# Altium footprint library LCD.PcbLib: 8 footprints
Each footprint in its own frame and in the unit in brackets; x right, y up, seen from the top. Pads: shape width x height; smd on the part's side, far side on the other; paste and mask are expansions set on the pad; w line width, h text height; cw(c..) or ccw(c..) is an arc to the next point about the centre after c.
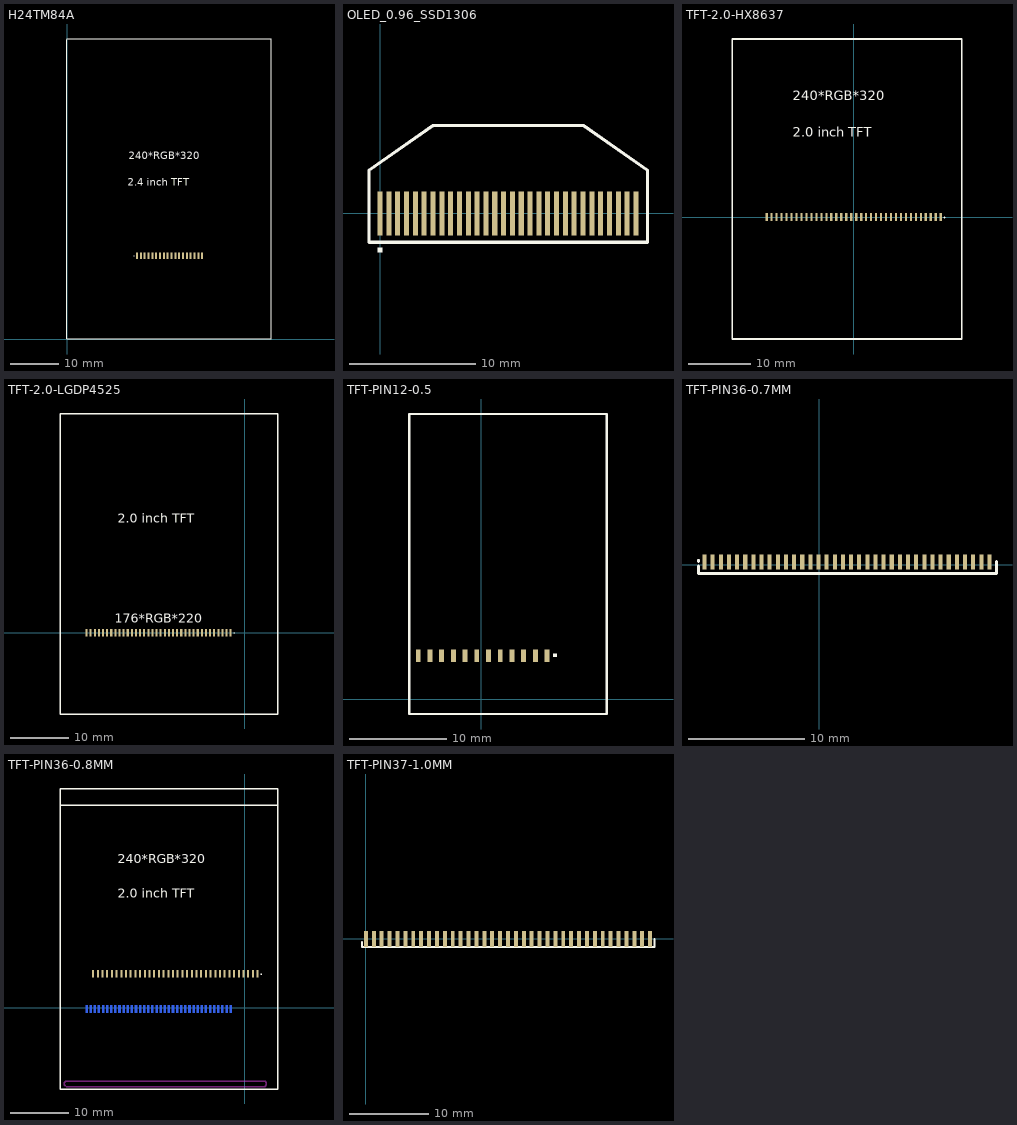
[diagram p0: the footprints below, top view; thin cyan lines are the x and y axes]

## H24TM84A [mm] "TFT-PIN18-0.8MM"
pads (18):
  rect 0.4x1.3 smd: 1(14.6,17.5) 2(15.4,17.5) 3(16.2,17.5) 4(17,17.5) 5(17.8,17.5) 6(18.6,17.5) 7(19.4,17.5) 8(20.2,17.5) 9(21,17.5) 10(21.8,17.5) 11(22.6,17.5) 12(23.4,17.5) 13(24.2,17.5) 14(25,17.5) 15(25.8,17.5) 16(26.6,17.5) 17(27.4,17.5) 18(28.2,17.5)
Top Overlay:
  lines w0.254: -0.045,62.543 -0.045,0.097 42.606,0.097 42.606,62.743 -0.045,62.743 ; 13.995,17.373 13.995,17.5
  text "2.4 inch TFT" at 12.7,32.1 h1.52
  text "240*RGB*320" at 12.9,37.6 h1.52

## OLED_0.96_SSD1306 [mm]
pads (30):
  rect 0.4x3.5 smd: 1(0,0) 2(0.7,0) 3(1.4,0) 4(2.1,0) 5(2.8,0) 6(3.5,0) 7(4.2,0) 8(4.9,0) 9(5.6,0) 10(6.3,0) 11(7,0) 12(7.7,0) 13(8.4,0) 14(9.1,0) 15(9.8,0) 16(10.5,0) 17(11.2,0) 18(11.9,0) 19(12.6,0) 20(13.3,0) 21(14,0) 22(14.7,0) 23(15.4,0) 24(16.1,0) 25(16.8,0) 26(17.5,0) 27(18.2,0) 28(18.9,0) 29(19.6,0) 30(20.3,0)
Top Overlay:
  rectangle: -0.2,-3.1 0.2,-2.7
  lines w0.254: -0.889,-2.286 21.209,-2.286 21.209,3.429 16.129,6.985 4.191,6.985 -0.889,3.429 -0.889,-2.286

## TFT-2.0-HX8637 [mm]
pads (36):
  rect 0.35x1.3 smd: 1(14,0) 2(13.2,0) 3(12.4,0) 4(11.6,0) 5(10.8,0) 6(10,0) 7(9.2,0) 8(8.4,0) 9(7.6,0) 10(6.8,0) 11(6,0) 12(5.2,0) 13(4.4,0) 14(3.6,0) 15(2.8,0) 16(2,0) 17(1.2,0) 18(0.4,0) 19(-0.4,0) 20(-1.2,0) 21(-2,0) 22(-2.8,0) 23(-3.6,0) 24(-4.4,0) 25(-5.2,0) 26(-6,0) 27(-6.8,0) 28(-7.6,0) 29(-8.4,0) 30(-9.2,0) 31(-10,0) 32(-10.8,0) 33(-11.6,0) 34(-12.4,0) 35(-13.2,0) 36(-14,0)
Top Overlay:
  lines w0.254: 14.605,-0.127 14.605,0 ; -19.558,-19.603 -19.558,28.657 17.399,28.657 17.399,-19.603 -19.558,-19.603
  text "240*RGB*320" at -9.779,18.796 h1.52
  text "2.0 inch TFT" at -9.779,12.954 h1.52

## TFT-2.0-LGDP4525 [mm]
pads (36):
  rect 0.35x1.3 smd: 1(-2.38,0.004) 2(-3.08,0.004) 3(-3.781,0.004) 4(-4.481,0.004) 5(-5.182,0.004) 6(-5.883,0.004) 7(-6.583,0.004) 8(-7.284,0.004) 9(-7.984,0.004) 10(-8.685,0.004) 11(-9.385,0.004) 12(-10.086,0.004) 13(-10.787,0.004) 14(-11.487,0.004) 15(-12.188,0.004) 16(-12.888,0.004) 17(-13.589,0.004) 18(-14.29,0.004) 19(-14.99,0.004) 20(-15.691,0.004) 21(-16.391,0.004) 22(-17.092,0.004) 23(-17.792,0.004) 24(-18.493,0.004) 25(-19.194,0.004) 26(-19.894,0.004) 27(-20.595,0.004) 28(-21.295,0.004) 29(-21.996,0.004) 30(-22.697,0.004) 31(-23.397,0.004) 32(-24.098,0.004) 33(-24.798,0.004) 34(-25.499,0.004) 35(-26.199,0.004) 36(-26.9,0.004)
Top Overlay:
  lines w0.254: -1.774,-0.123 -1.774,0.004 ; 5.606,34.079 5.606,37.209 -31.351,37.209 -31.351,34.415 -31.351,-13.845 5.606,-13.845 5.606,34.415
  text "2.0 inch TFT" at -21.572,18.712 h1.52
  text "176*RGB*220" at -22.098,1.651 h1.52

## TFT-PIN12-0.5 [mm]
pads (12):
  rect 0.5x1.3 smd: 1(6.731,4.445) 2(5.531,4.445) 3(4.331,4.445) 4(3.131,4.445) 5(1.931,4.445) 6(0.731,4.445) 7(-0.469,4.445) 8(-1.669,4.445) 9(-2.869,4.445) 10(-4.069,4.445) 11(-5.269,4.445) 12(-6.469,4.445)
Top Overlay:
  region: 7.747,4.699 7.366,4.699 7.366,4.318 7.747,4.318
  lines w0.254: -7.366,-1.524 12.827,-1.524 12.827,29.21 -7.366,29.21 -7.366,-1.524

## TFT-PIN36-0.7MM [mm]
pads (36):
  rect 0.35x1.3 smd: 1(-9.877,0.228) 2(-9.177,0.228) 3(-8.477,0.228) 4(-7.777,0.228) 5(-7.077,0.228) 6(-6.377,0.228) 7(-5.677,0.228) 8(-4.977,0.228) 9(-4.277,0.228) 10(-3.577,0.228) 11(-2.877,0.228) 12(-2.177,0.228) 13(-1.477,0.228) 14(-0.777,0.228) 15(-0.077,0.228) 16(0.623,0.228) 17(1.323,0.228) 18(2.023,0.228) 19(2.723,0.228) 20(3.423,0.228) 21(4.123,0.228) 22(4.823,0.228) 23(5.523,0.228) 24(6.223,0.228) 25(6.923,0.228) 26(7.623,0.228) 27(8.323,0.228) 28(9.023,0.228) 29(9.723,0.228) 30(10.423,0.228) 31(11.123,0.228) 32(11.823,0.228) 33(12.523,0.228) 34(13.223,0.228) 35(13.923,0.228) 36(14.623,0.228)
Top Overlay:
  lines w0.254: -10.414,-0.127 -10.414,-0.762 15.24,-0.762 15.24,0.254 ; -10.414,0.254 -10.414,0.381

## TFT-PIN36-0.8MM [mm]
pads (72):
  rect 0.35x1.3 smd far side: 1(-2.38,-0.258) 2(-3.08,-0.258) 3(-3.781,-0.258) 4(-4.481,-0.258) 5(-5.182,-0.258) 6(-5.883,-0.258) 7(-6.583,-0.258) 8(-7.284,-0.258) 9(-7.984,-0.258) 10(-8.685,-0.258) 11(-9.385,-0.258) 12(-10.086,-0.258) 13(-10.787,-0.258) 14(-11.487,-0.258) 15(-12.188,-0.258) 16(-12.888,-0.258) 17(-13.589,-0.258) 18(-14.29,-0.258) 19(-14.99,-0.258) 20(-15.691,-0.258) 21(-16.391,-0.258) 22(-17.092,-0.258) 23(-17.792,-0.258) 24(-18.493,-0.258) 25(-19.194,-0.258) 26(-19.894,-0.258) 27(-20.595,-0.258) 28(-21.295,-0.258) 29(-21.996,-0.258) 30(-22.697,-0.258) 31(-23.397,-0.258) 32(-24.098,-0.258) 33(-24.798,-0.258) 34(-25.499,-0.258) 35(-26.199,-0.258) 36(-26.9,-0.258)
  rect 0.35x1.3 smd: 1(2.206,5.758) 2(1.406,5.758) 3(0.606,5.758) 4(-0.194,5.758) 5(-0.994,5.758) 6(-1.794,5.758) 7(-2.594,5.758) 8(-3.394,5.758) 9(-4.194,5.758) 10(-4.994,5.758) 11(-5.794,5.758) 12(-6.594,5.758) 13(-7.394,5.758) 14(-8.194,5.758) 15(-8.994,5.758) 16(-9.794,5.758) 17(-10.593,5.758) 18(-11.393,5.758) 19(-12.193,5.758) 20(-12.993,5.758) 21(-13.793,5.758) 22(-14.593,5.758) 23(-15.393,5.758) 24(-16.193,5.758) 25(-16.993,5.758) 26(-17.793,5.758) 27(-18.593,5.758) 28(-19.393,5.758) 29(-20.193,5.758) 30(-20.993,5.758) 31(-21.793,5.758) 32(-22.593,5.758) 33(-23.393,5.758) 34(-24.193,5.758) 35(-24.993,5.758) 36(-25.793,5.758)
Top Overlay:
  lines w0.254: 2.812,5.631 2.812,5.758 ; 5.606,34.079 5.606,37.209 -31.351,37.209 -31.351,34.415 ; -31.351,34.415 -31.351,-13.845 5.606,-13.845 5.606,34.415 -31.351,34.415
  text "2.0 inch TFT" at -21.572,18.712 h1.52
  text "240*RGB*320" at -21.572,24.554 h1.52
Bottom Overlay:
  lines w0.254: -1.774,-0.258 -1.774,-0.131
Keep-Out Layer:
  lines w0.254: -30.5,-13.4 cw(c-30.05,-12.95) -30.5,-12.5 3.5,-12.5 cw(c3.05,-12.95) 3.5,-13.4 ; -30.4,-13.5 3.5,-13.5

## TFT-PIN37-1.0MM [mm]
pads (37):
  rect 0.5x2 smd: 1(0,0) 2(1,0) 3(2,0) 4(3,0) 5(4,0) 6(5,0) 7(6,0) 8(7,0) 9(8,0) 10(9,0) 11(10,0) 12(11,0) 13(12,0) 14(13,0) 15(14,0) 16(15,0) 17(16,0) 18(17,0) 19(18,0) 20(19,0) 21(20,0) 22(21,0) 23(22,0) 24(23,0) 25(24,0) 26(25,0) 27(26,0) 28(27,0) 29(28,0) 30(29,0) 31(30,0) 32(31,0) 33(32,0) 34(33,0) 35(34,0) 36(35,0) 37(36,0)
Top Overlay:
  lines w0.254: -0.508,-0.381 -0.508,-1.016 36.576,-1.016 36.576,0